# EAGLE library part RASPBERRY_PI_ZERO_W (library gritsbotx_electronics)
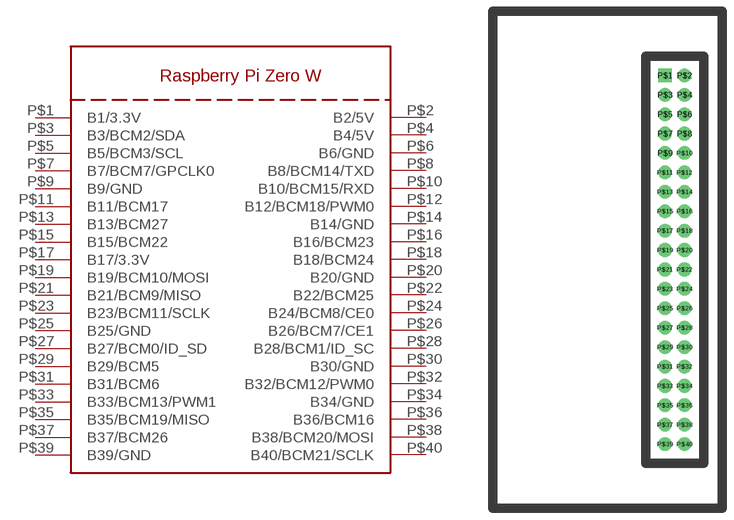
[diagram p2: symbol with the pads of RASPBERRY_PI_ZERO_W; footprint RASPBERRY_PI_ZERO_W]

Designator prefix -

## RASPBERRY_PI_ZERO_W  [RASPBERRY_PI_ZERO_W]
P$1  B1/3.3V
P$2  B2/5V
P$3  B3/BCM2/SDA
P$4  B4/5V
P$5  B5/BCM3/SCL
P$6  B6/GND
P$7  B7/BCM7/GPCLK0
P$8  B8/BCM14/TXD
P$9  B9/GND
P$10  B10/BCM15/RXD
P$11  B11/BCM17
P$12  B12/BCM18/PWM0
P$13  B13/BCM27
P$14  B14/GND
P$15  B15/BCM22
P$16  B16/BCM23
P$17  B17/3.3V
P$18  B18/BCM24
P$19  B19/BCM10/MOSI
P$20  B20/GND
P$21  B21/BCM9/MISO
P$22  B22/BCM25
P$23  B23/BCM11/SCLK
P$24  B24/BCM8/CE0
P$25  B25/GND
P$26  B26/BCM7/CE1
P$27  B27/BCM0/ID_SD
P$28  B28/BCM1/ID_SC
P$29  B29/BCM5
P$30  B30/GND
P$31  B31/BCM6
P$32  B32/BCM12/PWM0
P$33  B33/BCM13/PWM1
P$34  B34/GND
P$35  B35/BCM19/MISO
P$36  B36/BCM16
P$37  B37/BCM26
P$38  B38/BCM20/MOSI
P$39  B39/GND
P$40  B40/BCM21/SCLK

## Footprint RASPBERRY_PI_ZERO_W (pad centres in mm)
drill 1.016 pad 1.778 square: P$1 0,24.13
drill 1.016 pad 1.778: P$2 2.54,24.13; P$3 0,21.59; P$4 2.54,21.59; P$5 0,19.05; P$6 2.54,19.05; P$7 0,16.51; P$8 2.54,16.51; P$9 0,13.97; P$10 2.54,13.97; P$11 0,11.43; P$12 2.54,11.43; P$13 0,8.89; P$14 2.54,8.89; P$15 0,6.35; P$16 2.54,6.35; P$17 0,3.81; P$18 2.54,3.81; P$19 0,1.27; P$20 2.54,1.27; P$21 0,-1.27; P$22 2.54,-1.27; P$23 0,-3.81; P$24 2.54,-3.81; P$25 0,-6.35; P$26 2.54,-6.35; P$27 0,-8.89; P$28 2.54,-8.89; P$29 0,-11.43; P$30 2.54,-11.43; P$31 0,-13.97; P$32 2.54,-13.97; P$33 0,-16.51; P$34 2.54,-16.51; P$35 0,-19.05; P$36 2.54,-19.05; P$37 0,-21.59; P$38 2.54,-21.59; P$39 0,-24.13; P$40 2.54,-24.13